# Altium schematic symbol library AP3445LW6-7.SchLib: 2 symbols
Pins are listed as number, name and electrical type; pins without a type are passive.

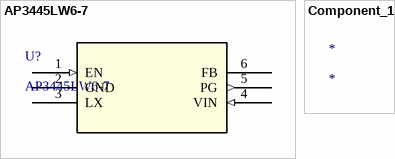
[diagram p0: symbols AP3445LW6-7 to Component_1]

## AP3445LW6-7
designator U?
No Description Available; Mfr_Name: Diodes Inc; Copyright: Copyright (C) 2024 Ultra Librarian. All rights reserved.; Manufacturer_Part_Number: AP3445LW6-7; RefDes: RefDes; Type: DEV
footprint SOT26_AP3445_DIO
pins: 1 EN (in), 2 GND (power), 3 LX, 4 VIN (in), 5 PG (out), 6 FB

## Component_1
designator *